# EAGLE library part TAS5176/TAS5186 (library Audio-Power-amlifier V.2.0)
The TAS5176/TAS5186 is a high-performance, six-channel, digital-amplifier power stage with an improved protection system.
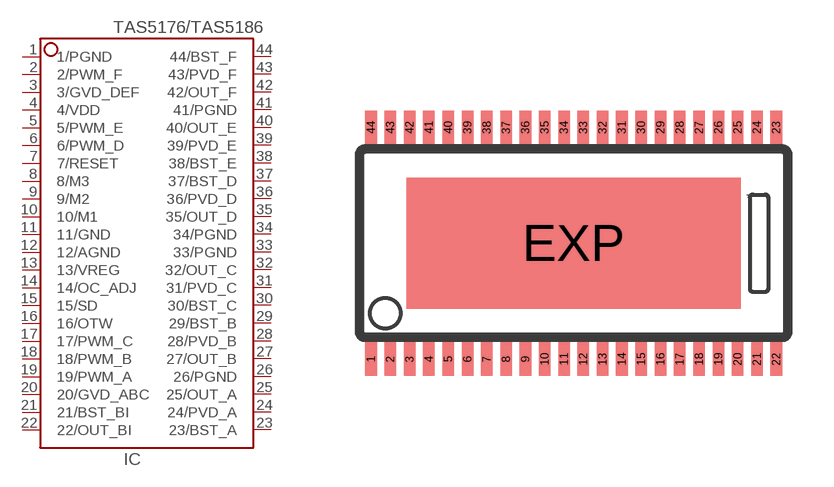
[diagram p192: symbol with the pads of HTSSOP44DDV; footprint HTSSOP44DDV]

Designator prefix IC

## TAS5176/TAS5186  [HTSSOP44DDV]
1  1/PGND  pwr
2  2/PWM_F  in
3  3/GVD_DEF  pwr
4  4/VDD  pwr
5  5/PWM_E  in
6  6/PWM_D  in
7  7/RESET  in
8  8/M3  in
9  9/M2  in
10  10/M1  in
11  11/GND  pwr
12  12/AGND  pwr
13  13/VREG  out
14  14/OC_ADJ  out
15  15/SD  out
16  16/OTW  out
17  17/PWM_C  in
18  18/PWM_B  in
19  19/PWM_A  in
20  20/GVD_ABC  pwr
21  21/BST_BI  pwr
22  22/OUT_BI  out
23  23/BST_A  pwr
24  24/PVD_A  pwr
25  25/OUT_A  out
26  26/PGND  pwr
27  27/OUT_B  out
28  28/PVD_B  pwr
29  29/BST_B  pwr
30  30/BST_C  pwr
31  31/PVD_C  pwr
32  32/OUT_C  out
33  33/PGND  pwr
34  34/PGND  pwr
35  35/OUT_D  out
36  36/PVD_D  pwr
37  37/BST_D  pwr
38  38/BST_E  pwr
39  39/PVD_E  pwr
40  40/OUT_E  out
41  41/PGND  pwr
42  42/OUT_F  out
43  43/PVD_F  pwr
44  44/BST_F  pwr

## Footprint HTSSOP44DDV (pad centres in mm)
PowerPAD(TM) PLASTIC SMALL-OUTLINE PACKAGE DDV (R-PDSO-G**) Source: http://focus.ti.com/lit/ml/mpds041b/mpds041b.pdf / slma002.pdf
smd 0.38 x 1.1: 1 -6.668,-3.81; 2 -6.032,-3.81; 3 -5.397,-3.81; 4 -4.763,-3.81; 5 -4.128,-3.81; 6 -3.493,-3.81; 7 -2.857,-3.81; 8 -2.223,-3.81; 9 -1.587,-3.81; 10 -0.953,-3.81; 11 -0.318,-3.81; 12 0.318,-3.81; 13 0.953,-3.81; 14 1.587,-3.81; 15 2.223,-3.81; 16 2.857,-3.81; 17 3.493,-3.81; 18 4.128,-3.81; 19 4.763,-3.81; 20 5.397,-3.81; 21 6.032,-3.81; 22 6.668,-3.81; 23 6.668,3.81; 24 6.032,3.81; 25 5.397,3.81; 26 4.763,3.81; 27 4.128,3.81; 28 3.493,3.81; 29 2.857,3.81; 30 2.223,3.81; 31 1.587,3.81; 32 0.953,3.81; 33 0.318,3.81; 34 -0.318,3.81; 35 -0.953,3.81; 36 -1.587,3.81; 37 -2.223,3.81; 38 -2.857,3.81; 39 -3.493,3.81; 40 -4.128,3.81; 41 -4.763,3.81; 42 -5.397,3.81; 43 -6.032,3.81; 44 -6.668,3.81
smd 11 x 4.3: EXP 0,0